# Altium schematic symbol library ic-power-voltage-references.SchLib: 1 symbol
Pins are listed as number, name and electrical type; pins without a type are passive.

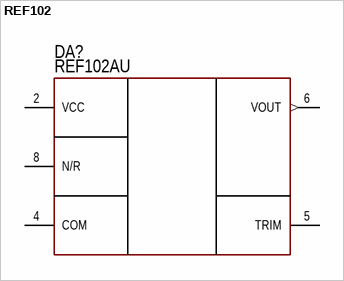
[diagram p0: symbol REF102]

## REF102
designator DA?  PartNumber: REF102AU
Voltage References; Manufacturer: Texas Instruments; ValueManufacturerPartNumber: Voltage Reference, 11.4...36V, 10V, ±0.1% 10ppm/°C, -25...+85°C, 8-SOIC; VoltageInput: 11.4...36V; VoltageOutput: 10V; Tolerance: ±0.1% 10ppm/°C; HelpURL: https://www.digikey.com/en/products/detail/texas-instruments/REF102AU/301475; Package: 8-SOIC; ComponentType: Voltage Reference; Temperature: -25...+85°C
footprint 8-SOIC (pitch 1.27 mm)
pins: 2 VCC (power), 4 COM, 5 TRIM, 6 VOUT (out), 8 N/R